# Altium schematic symbol library Neopixel.SchLib: 1 symbol
Pins are listed as number, name and electrical type; pins without a type are passive.

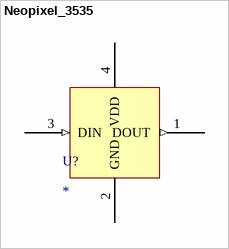
[diagram p0: symbol Neopixel_3535]

## Neopixel_3535
designator U?
footprint NEOPIXEL_35x35
pins: 1 DOUT (out), 2 GND, 3 DIN (in), 4 VDD (power)